# Altium schematic symbol library st-diode.SchLib: 3 symbols
Pins are listed as number, name and electrical type; pins without a type are passive.

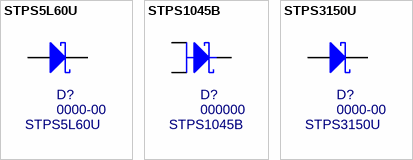
[diagram p0: symbols STPS5L60U to STPS3150U]

## STPS5L60U
designator D?, comment 0000-00  value STPS5L60U
Schottky Barrier Rectifier 60V 5A; MF: ST Microelectronics; PN: 0000-00; Package: DO-214AA; ExtraInfo: *; Digi-Key PN: 497-16321-1-ND; Price: 0.21158; MF PN: STPS5L60U
footprint DO-214AA (Molded Diode, 2-Leads, Body 4.3x3.6mm, IPC High Density)
pins: 1 A, 2 K

## STPS1045B
designator D?, comment 000000  value STPS1045B
Schottky Barrier Rectifier 45V 10A; MF PN: STPS1045B-TR; MF: ST Microelectronics; PN: 000000; Package: D-Pack; ExtraInfo: *; Price: 0.33038; Digi-Key PN: 497-6572-1-ND
footprint TO252-3 (D-PAK, 3-Pads, Body 6.20x6.72mm (max), IPC Medium Density)
pins: 1 A, 3 A, 4 K

## STPS3150U
designator D?, comment 0000-00  value STPS3150U
Schottky Barrier Rectifier 150V 3A; MF: ST Microelectronics; PN: 0000-00; Package: DO-214AA; ExtraInfo: *
footprint DO-214AA (Molded Diode, 2-Leads, Body 4.3x3.6mm, IPC High Density)
pins: 1 A, 2 K